# EAGLE library part OLIMEX_H256_H64 (library Taylor)
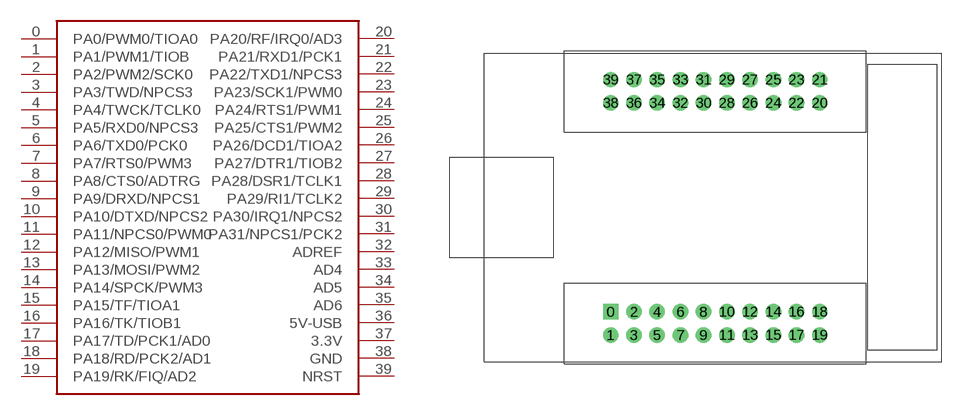
[diagram p15: symbol with the pads of OLIMEX_H256_SAM7; footprint OLIMEX_H256_SAM7]

Designator prefix -

## OLIMEX_H256_H64  [OLIMEX_H256_SAM7]
0  PA0/PWM0/TIOA0
1  PA1/PWM1/TIOB
2  PA2/PWM2/SCK0
3  PA3/TWD/NPCS3
4  PA4/TWCK/TCLK0
5  PA5/RXD0/NPCS3
6  PA6/TXD0/PCK0
7  PA7/RTS0/PWM3
8  PA8/CTS0/ADTRG
9  PA9/DRXD/NPCS1
10  PA10/DTXD/NPCS2
11  PA11/NPCS0/PWM0
12  PA12/MISO/PWM1
13  PA13/MOSI/PWM2
14  PA14/SPCK/PWM3
15  PA15/TF/TIOA1
16  PA16/TK/TIOB1
17  PA17/TD/PCK1/AD0
18  PA18/RD/PCK2/AD1
19  PA19/RK/FIQ/AD2
20  PA20/RF/IRQ0/AD3
21  PA21/RXD1/PCK1
22  PA22/TXD1/NPCS3
23  PA23/SCK1/PWM0
24  PA24/RTS1/PWM1
25  PA25/CTS1/PWM2
26  PA26/DCD1/TIOA2
27  PA27/DTR1/TIOB2
28  PA28/DSR1/TCLK1
29  PA29/RI1/TCLK2
30  PA30/IRQ1/NPCS2
31  PA31/NPCS1/PCK2
32  ADREF
33  AD4
34  AD5
35  AD6
36  5V-USB
37  3.3V
38  GND
39  NRST

## Footprint OLIMEX_H256_SAM7 (pad centres in mm)
drill 1.016 pad 1.676 square: 0 -10.287,-11.684
drill 1.016 pad 1.676: 1 -10.287,-14.224; 2 -7.747,-11.684; 3 -7.747,-14.224; 4 -5.207,-11.684; 5 -5.207,-14.224; 6 -2.667,-11.684; 7 -2.667,-14.224; 8 -0.127,-11.684; 9 -0.127,-14.224; 10 2.413,-11.684; 11 2.413,-14.224; 12 4.953,-11.684; 13 4.953,-14.224; 14 7.493,-11.684; 15 7.493,-14.224; 16 10.033,-11.684; 17 10.033,-14.224; 18 12.573,-11.684; 19 12.573,-14.224; 20 12.573,11.176; 21 12.573,13.716; 22 10.033,11.176; 23 10.033,13.716; 24 7.493,11.176; 25 7.493,13.716; 26 4.953,11.176; 27 4.953,13.716; 28 2.413,11.176; 29 2.413,13.716; 30 -0.127,11.176; 31 -0.127,13.716; 32 -2.667,11.176; 33 -2.667,13.716; 34 -5.207,11.176; 35 -5.207,13.716; 36 -7.747,11.176; 37 -7.747,13.716; 38 -10.287,11.176; 39 -10.287,13.716